# Altium footprint library MDM-31.PcbLib: 1 footprints
Each footprint in its own frame and in the unit in brackets; x right, y up, seen from the top. Pads: shape width x height; smd on the part's side, far side on the other; paste and mask are expansions set on the pad; w line width, h text height; cw(c..) or ccw(c..) is an arc to the next point about the centre after c.
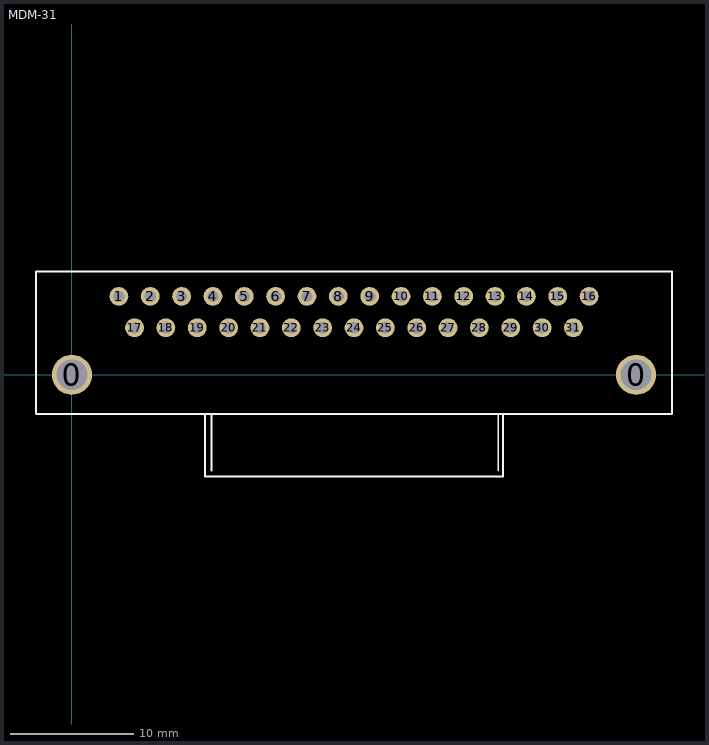
[diagram p0: the footprint, top view; thin cyan lines are the x and y axes]

## MDM-31 [mil]
pads (33):
  round 128 hole 98.43: 0(0,0) 0(1800,0)
  round 60 hole 36: 1(150,250) 2(250,250) 3(350,250) 4(450,250) 5(550,250) 6(650,250) 7(750,250) 8(850,250) 9(950,250) 10(1050,250) 11(1150,250) 12(1250,250) 13(1350,250) 14(1450,250) 15(1550,250) 16(1650,250) 17(200,150) 18(300,150) 19(400,150) 20(500,150) 21(600,150) 22(700,150) 23(800,150) 24(900,150) 25(1000,150) 26(1100,150) 27(1200,150) 28(1300,150) 29(1400,150) 30(1500,150) 31(1600,150)
TopOverlay:
  lines w6: 425,-125 425,-325 1375,-325 1375,-125 ; 445,-305 445,-125 ; 1360,-305 1360,-125 ; -115,-125 -115,330 1915,330 1915,-125 -115,-125
3D body: height 275.59, standoff 0, extent -112.5,-120 1912.5,330